# Altium schematic symbol library Mezeq_Semiconductors.SchLib: 22 symbols
Pins are listed as number, name and electrical type; pins without a type are passive.

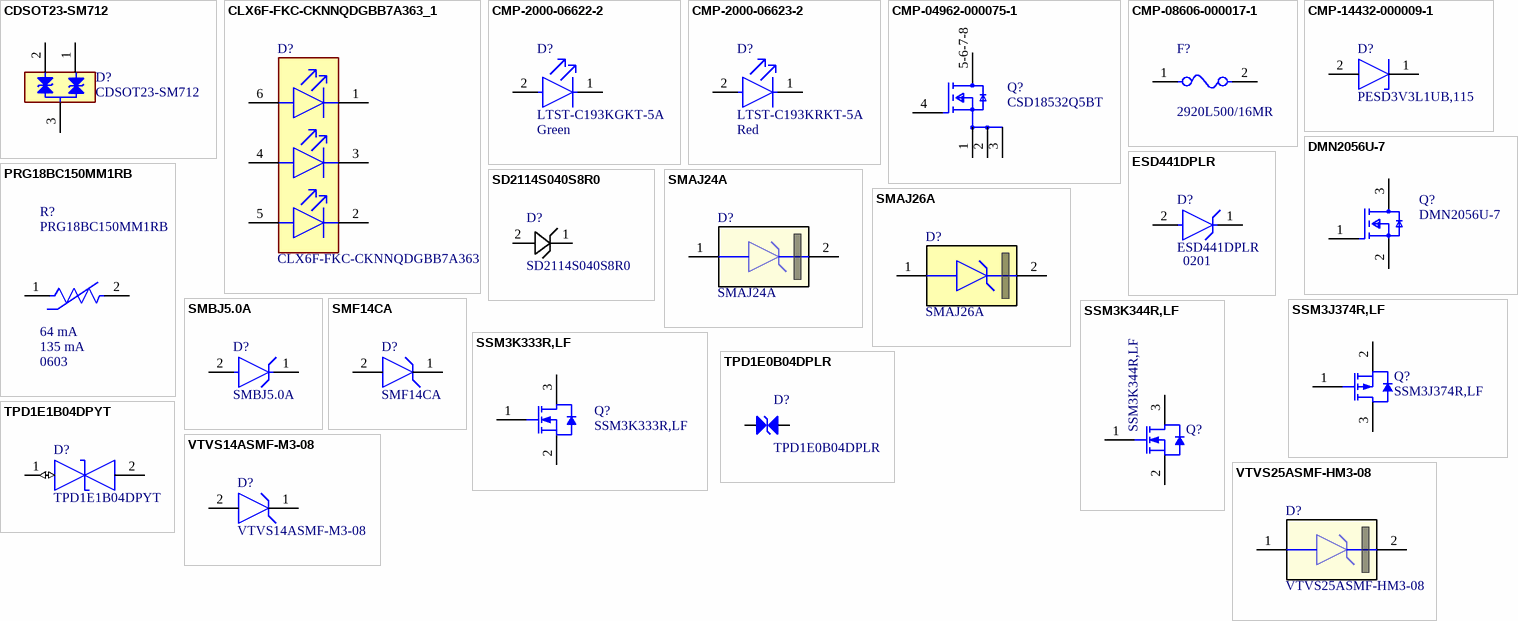
[diagram p0: symbols CDSOT23-SM712 to VTVS25ASMF-HM3-08]

## CDSOT23-SM712
designator D?
TVS DIODE 12VWM 7VWM SOT233; Manufacturer 1: Bourns Inc.; Manufacturer Part Number 1: CDSOT23-SM712; Supplier 1: Digikey; Supplier Part Number 1: CDSOT23-SM712CT-ND
footprint SOT23F
pins: 1 K_1, 2 K_2, 3 COMMON

## CLX6F-FKC-CKNNQDGBB7A363_1
designator D?, comment CLX6F-FKC-CKNNQDGBB7A363
LED RGB 6PLCC SMD; Manufacturer 1: Cree LED; Lens Style: Flat; Temperature Coefficient: 25ppm/°C; Test Current: 10mA; Color: Blue; Max Power Dissipation: 400mW; Dominant Wavelength: 470nm; Tolerance: 0.1%; Resistance: 49.9R; Forward Voltage: 3V; Luminous Intensity: 240mcd; Case Code (Imperial): 1206; Features: Moisture Resistant; RoHS Compliant: Yes; Case Code (Metric): 3216; Packaging: Cut Tape; Max Operating Temperature: 155°C; Case/Package: SMD/SMT; Mount: Surface Mount; Height: 2.9mm; Resistor Type: Thin Film; Min Operating Temperature: -55°C; Length: 3.4mm; Number of Terminations: 2; Width: 3.4mm; Manufacturer Part Number 1: CLX6F-FKC-CKNNQDGBB7A363; Supplier 1: Digikey; Supplier Part Number 1: CLX6F-FKC-CKNNQDGBB7A363CT-ND; Manufacturer 2: NATIONSTAR; Manufacturer Part Number 2: RS-3535MWAR; Supplier 2: LCSC; Supplier Part Number 2: C110402
footprint FP-CLX6F-FKC-CKNNQDGBB7A3-IPC_C
pins: 1 BLUE C, 2 GREEN C, 3 RED C, 4 RED A, 5 GREEN A, 6 BLUE A

## CMP-2000-06622-2
designator D?, comment LTST-C193KGKT-5A  Illumination Color: Green
LED GREEN CLEAR CHIP SMD Green 572nm LED Indication - Discrete 2V 0603 (1608 Metric); Manufacturer 1: Lite-On Inc.; Forward Current: 30mA; Power Dissipation: 75mW; Luminous Intensity: 28mcd; Lens Style: Diffused; Lens Color: Colorless; Forward Voltage: 2.3V; Test Current: 5mA; Viewing Angle: 130°; Reverse Voltage: 5V; Dominant Wavelength: 576.5nm; Number of Elements: 1; Number of Pins: 2; Case/Package: 0603; Width: 0.8mm; Radiation Hardening: No; Lead Free: Lead Free; Lens Transparency: Clear; Max Operating Temperature: 85°C; Color: Green; Packaging: Tape and Reel; Depth: 0.8mm; Length: 1.6mm; Mount: Surface Mount; Case Code (Imperial): 0603; Height: 0.35mm; Min Operating Temperature: -55°C; Package Quantity: 3000; Case Code (Metric): 1608; Power Rating: 75mW; Number of LEDs: 1; Manufacturer Part Number 1: LTST-C193KGKT-5A; Supplier 1: Digikey; Supplier Part Number 1: 160-1828-1-ND
footprint FP-LTST-C193KGKT-5A-MFG
pins: 1 C, 2 A

## CMP-2000-06623-2
designator D?, comment LTST-C193KRKT-5A  Illumination Color: Red
LED RED CLEAR CHIP SMD  Red 631nm LED Indication - Discrete 2V 0603 (1608 Metric); Manufacturer 1: Lite-On Inc.; Power Dissipation: 50mW; Lens Style: Diffused; Test Current: 5mA; Reverse Voltage: 5V; Number of Elements: 1; Viewing Angle: 130°; Luminous Intensity: 45mcd; Lens Color: Colorless; Forward Voltage: 2.3V; Case Code (Imperial): 0603; Lead Free: Lead Free; Radiation Hardening: No; Width: 0.8mm; Dominant Wavelength: 631nm; Number of Pins: 2; Packaging: Tape and Reel; Depth: 0.8mm; Height: 0.35mm; Mount: Surface Mount; Case Code (Metric): 1608; Forward Current: 5mA; Lens Transparency: Clear; Case/Package: 0603; Length: 1.6mm; Color: Red; Max Operating Temperature: 85°C; Number of LEDs: 1; Min Operating Temperature: -55°C; Package Quantity: 3000; Manufacturer Part Number 1: LTST-C193KRKT-5A; Supplier 1: Digikey; Supplier Part Number 1: 160-1830-1-ND
footprint FP-LTST-C193KRKT-5A-MFG
pins: 1 C, 2 A

## CMP-04962-000075-1
designator Q?, comment CSD18532Q5BT
N-Channel 60 V 100A (Ta) 3.2W (Ta), 156W (Tc) Surface Mount 8-VSONP (5x6); Manufacturer 1: XNRUSEMI; Manufacturer Part Number 1: XRS100N06HF; Fall Time: 3.1ns; Rise Time: 7.2ns; Element Configuration: Single; Turn-Off Delay Time: 22ns; Input Capacitance: 5.07nF; Rds On Max: 3.2mR; Gate to Source Voltage (Vgs): 20V; Drain to Source Voltage (Vdss): 60V; Turn-On Delay Time: 5.8ns; Max Power Dissipation: 3.2W; Packaging: Tape and Reel; Continuous Drain Current (ID): 100A; Min Operating Temperature: -55°C; Number of Pins: 8; Contact Plating: Tin; Lead Free: Contains Lead; RoHS Compliant: Yes; Max Operating Temperature: 150°C; Mount: Surface Mount; Supplier 1: LCSC; Supplier Part Number 1: C42457050; Manufacturer 2: Texas Instruments; Manufacturer Part Number 2: CSD18532Q5BT; Supplier 2: Digikey; Supplier Part Number 2: 296-46414-1-ND
footprint FP-DNK0008A-MFG
pins: 1 S, 2 S, 3 S, 4 G, 5-6-7-8 D

## CMP-08606-000017-1
designator F?, comment 2920L500/16MR
Polymeric PTC Resettable Fuse 16V 5 A Ih Surface Mount 2920 (7351 Metric), Concave; Manufacturer: Littelfuse; Manufacturer 1: Littelfuse Inc.; Trip Time: 5s; Resistance: 0.005-0.025Ω; Trip Current: 10A; Current Rating: 40A; Hold Current: 5A; Category: Fuse; ComponentLink2URL: https://www.littelfuse.com/~/media/electronics/datasheets/resettable_ptcs/littelfuse_ptc_2920l_datasheet.pdf.pdf; Voltage Rating: 16V; RoHS: TRUE; Manufacturer Part Number: 2920L500/16MR; Ambient Temperature Range High: +85°C; Ambient Temperature Range Low: -40°C; Temperature Range Low: -40°C; Automotive: No; Octopart: https://octopart.com/2920l500%2F16mr-littelfuse-28867177; Package: 2920L; Height: 1.6mm; Lead Free: Yes; Device Class L1: Circuit Protection; Temperature: -40°C to +85°C; Mouser Description: PTC Resettable Fuse 5A(hold) 10A(trip) 16VDC 40A 2W 5s 0.005Ohm SMD Solder Pad 7.98 X 5.44 X 1.6mm T/R; Device Class L3: unset; Digikey Description: PTC RESET FUSE 16V 5A 2920; Device Class L2: PTC Resettable Fuses; ComponentLink2Description: Datasheet; Temperature Range High: +85°C; Manufacturer Part Number 1: 2920L500/16MR; Supplier 1: Digikey; Supplier Part Number 1: F6136CT-ND
footprint FP-2920L-MFG
pins: 1, 2

## CMP-14432-000009-1
designator D?, comment PESD3V3L1UB,115
TVS DIODE 3.3VWM 11V Clamp 4.5A (8/20µs) Ipp Tvs Diode Surface Mount SOD-523; Manufacturer 1: Nexperia USA Inc.; RoHS Compliant: Yes; Manufacturer Part Number 1: PESD3V3L1UB,115; Supplier 1: Digikey; Supplier Part Number 1: 1727-5418-1-ND; Manufacturer 2: onsemi; Manufacturer Part Number 2: ESD5Z3.3T1G; Supplier 2: Digikey; Supplier Part Number 2: ESD5Z3.3T1GOSCT-ND
footprint FP-SOD523-MFG
pins: 1 C, 2 A

## DMN2056U-7
designator Q?
N-Channel 20 V 4A (Ta) 940mW Surface Mount SOT-23-3; Manufacturer 1: Diodes Incorporated; Case/Package: SOT-23-3; Manufacturer Part Number 1: DMN2056U-7; Supplier 1: Digikey; Supplier Part Number 1: DMN2056U-7DIDKR-ND; Current - Continuous Drain (Id) @ 25°C: 4A
footprint FP-SOT23-MFG
pins: 1 G, 2 S, 3 D

## ESD441DPLR
designator D?  Case/Package: 0201
7.6V (Typ) Clamp 6A (8/20µs) Ipp Tvs Diode Surface Mount 2-X2SON (0.6x0.3); Manufacturer 1: Texas Instruments; Voltage - Reverse Standoff (Typ): 5.5V; Voltage - Breakdown (Min): 6V; Manufacturer Part Number 1: ESD441DPLR; Supplier 1: Mouser; Supplier Part Number 1: 595-ESD441DPLR; Voltage - Clamping (Max) @ Ipp: 7.6V (Typ)
footprint FP-DPL0002A-MFG (1-pF, 5.5-V, 30-KV ESD protection device in 0201 package 2-X2SON -40 to 125)
pins: 1 IO, 2 GND

## PRG18BC150MM1RB
designator R?  Current - Trip (It): 135 mA  Current - Hold (Ih) (Max): 64 mA  Case/Package: 0603
Ceramic PTC Resettable Fuse 30V 64 mA Ih Surface Mount 0603 (1608 Metric); Manufacturer 1: Murata Electronics; Manufacturer Part Number 1: PRG18BC150MM1RB; Supplier 1: Digikey; Supplier Part Number 1: 490-PRG18BC150MM1RBDKR-ND
footprint R0603 (Chip Resistor; Body 1.6 x 0.9 mm (LxW typ))
pins: 1, 2

## SD2114S040S8R0
designator D?
Diode 40 V 8A Surface Mount 2114/DO-214AA; Manufacturer 1: KYOCERA AVX; Supplier 1: Digikey; Supplier Part Number 1: 478-7817-1-ND; Manufacturer Part Number 1: SD2114S040S8R0
footprint SD2114_AVX
pins: 1, 2

## SMAJ24A
designator D?
38.9V Clamp 10.3A Ipp Tvs Diode Surface Mount DO-214AC (SMA); Manufacturer 1: Littelfuse Inc.; Supplier 1: Digikey; Supplier Part Number 1: SMAJ24ALFCT-ND; Manufacturer Part Number 1: SMAJ24A
footprint SMA (DO-214AC)
pins: 1 A, 2 C

## SMAJ26A
designator D?
TVS DIODE 26VWM 42.1VC DO214AC; Manufacturer 1: Littelfuse Inc.; Supplier 1: Digikey; Supplier Part Number 1: SMAJ26ALFCT-ND; Manufacturer Part Number 1: SMAJ26A
footprint SMA (DO-214AC)
pins: 1 A, 2 C

## SMBJ5.0A
designator D?
TVS DIODE 5VWM 9.2VC DO214AA (SMB); Manufacturer 1: Bourns Inc.; Voltage - Reverse Standoff (Typ): 5V; Voltage - Breakdown (Min): 6.4V; Voltage - Clamping (Max) @ Ipp: 9.2V; Current - Peak Pulse (10/1000µs): 65.2A; Manufacturer Part Number 1: SMBJ5.0A; Supplier 1: Digikey; Supplier Part Number 1: SMBJ5.0ABCT-ND; Case: DO-214AA, SMB
footprint SMBDO-214AA_VIS (Surface Mount DO-214AA (SMB))
pins: 1 IO, 2 GND

## SMF14CA
designator D?
23.2V Clamp 8.6A Ipp Tvs Diode Surface Mount SOD-123FL; Manufacturer 1: Shenzhen Slkormicro Semicon Co., Ltd.; Manufacturer Part Number 1: SMF14CA; Supplier 1: Digikey; Supplier Part Number 1: 5399-SMF14CACT-ND; Manufacturer 2: Littelfuse Inc.; Manufacturer Part Number 2: SMF14CA; Supplier 2: Digikey; Supplier Part Number 2: 18-SMF14CACT-ND
footprint SMF
pins: 1 C, 2 A

## SSM3J374R,LF
designator Q?
P-Channel 30 V 4A (Ta) 1W (Ta) Surface Mount SOT-23F; Manufacturer 1: Toshiba Semiconductor and Storage; Supplier 1: Digikey; Supplier Part Number 1: SSM3J374RLFCT-ND; Manufacturer Part Number 1: SSM3J374R,LF
footprint SOT23F
pins: 1 G, 2 S2, 3 D

## SSM3K333R,LF
designator Q?
N-Channel 30 V 6A (Ta) 1W (Ta) Surface Mount SOT-23F; Manufacturer 1: Toshiba Semiconductor and Storage; Supplier 1: Digikey; Supplier Part Number 1: SSM3K333RLFCT-ND; Manufacturer Part Number 1: SSM3K333R,LF
footprint SOT23F
pins: 1 G, 2 S, 3 D

## SSM3K344R,LF
designator Q?
N-Channel 20 V 3A (Ta) 1W (Ta) Surface Mount SOT-23F; Manufacturer 1: Toshiba Semiconductor and Storage; Supplier 1: Digikey; Supplier Part Number 1: SSM3K344RLFCT-ND; Manufacturer Part Number 1: SSM3K344R,LF
footprint SOT23F
pins: 1 G, 2 S, 3 D

## TPD1E0B04DPLR
designator D?
TVS DIODE 3.6VWM 10.1VC 2X2SON; Manufacturer 1: Texas Instruments; Voltage - Reverse Standoff (Typ): 3.6V; Voltage - Breakdown (Min): 6.7V; Case/Package: 0201; Manufacturer Part Number 1: TPD1E0B04DPLR; Supplier 1: Digikey; Supplier Part Number 1: 296-50584-1-ND
footprint DPL0002A-MFG (DPL (R-PX2SON-N2) Texas Instruments)
pins: 1, 2

## TPD1E1B04DPYT
designator D?
8.5V (Typ) Clamp 6.3A (8/20µs) Ipp Tvs Diode Surface Mount 2-X1SON (1x.60); Manufacturer 1: Texas Instruments; Voltage - Reverse Standoff (Typ): 3.6V; Voltage - Breakdown (Min): 6.4V; Case/Package: 0402; Manufacturer Part Number 1: TPD1E1B04DPYT; Supplier 1: Digikey; Supplier Part Number 1: 296-46892-6-ND
footprint FP-DPY0002A-MFG
pins: 1 1 IO (io), 2 2 IO (power)

## VTVS14ASMF-M3-08
designator D?
22.2V Clamp 17.16A Ipp Tvs Diode Surface Mount DO-219AB (SMF); Manufacturer 1: Vishay General Semiconductor - Diodes Division; Manufacturer Part Number 1: VTVS14ASMF-M3-08; Supplier 1: Digikey; Supplier Part Number 1: 112-VTVS14ASMF-M3-08CT-ND
footprint SMF
pins: 1 C, 2 A

## VTVS25ASMF-HM3-08
designator D?
42V Clamp 9.07A Ipp Tvs Diode Surface Mount DO-219AB (SMF); Manufacturer 1: Vishay General Semiconductor - Diodes Division; Supplier 1: Digikey; Supplier Part Number 1: 112-VTVS25ASMF-HM3-08CT-ND; Manufacturer Part Number 1: VTVS25ASMF-HM3-08
footprint SMF
pins: 1 A, 2 C